# Altium footprint library Gelnar.PcbLib: 295 footprints (part 17 of 19)
Each footprint in its own frame and in the unit in brackets; x right, y up, seen from the top. Pads: shape width x height; smd on the part's side, far side on the other; paste and mask are expansions set on the pad; w line width, h text height; cw(c..) or ccw(c..) is an arc to the next point about the centre after c.
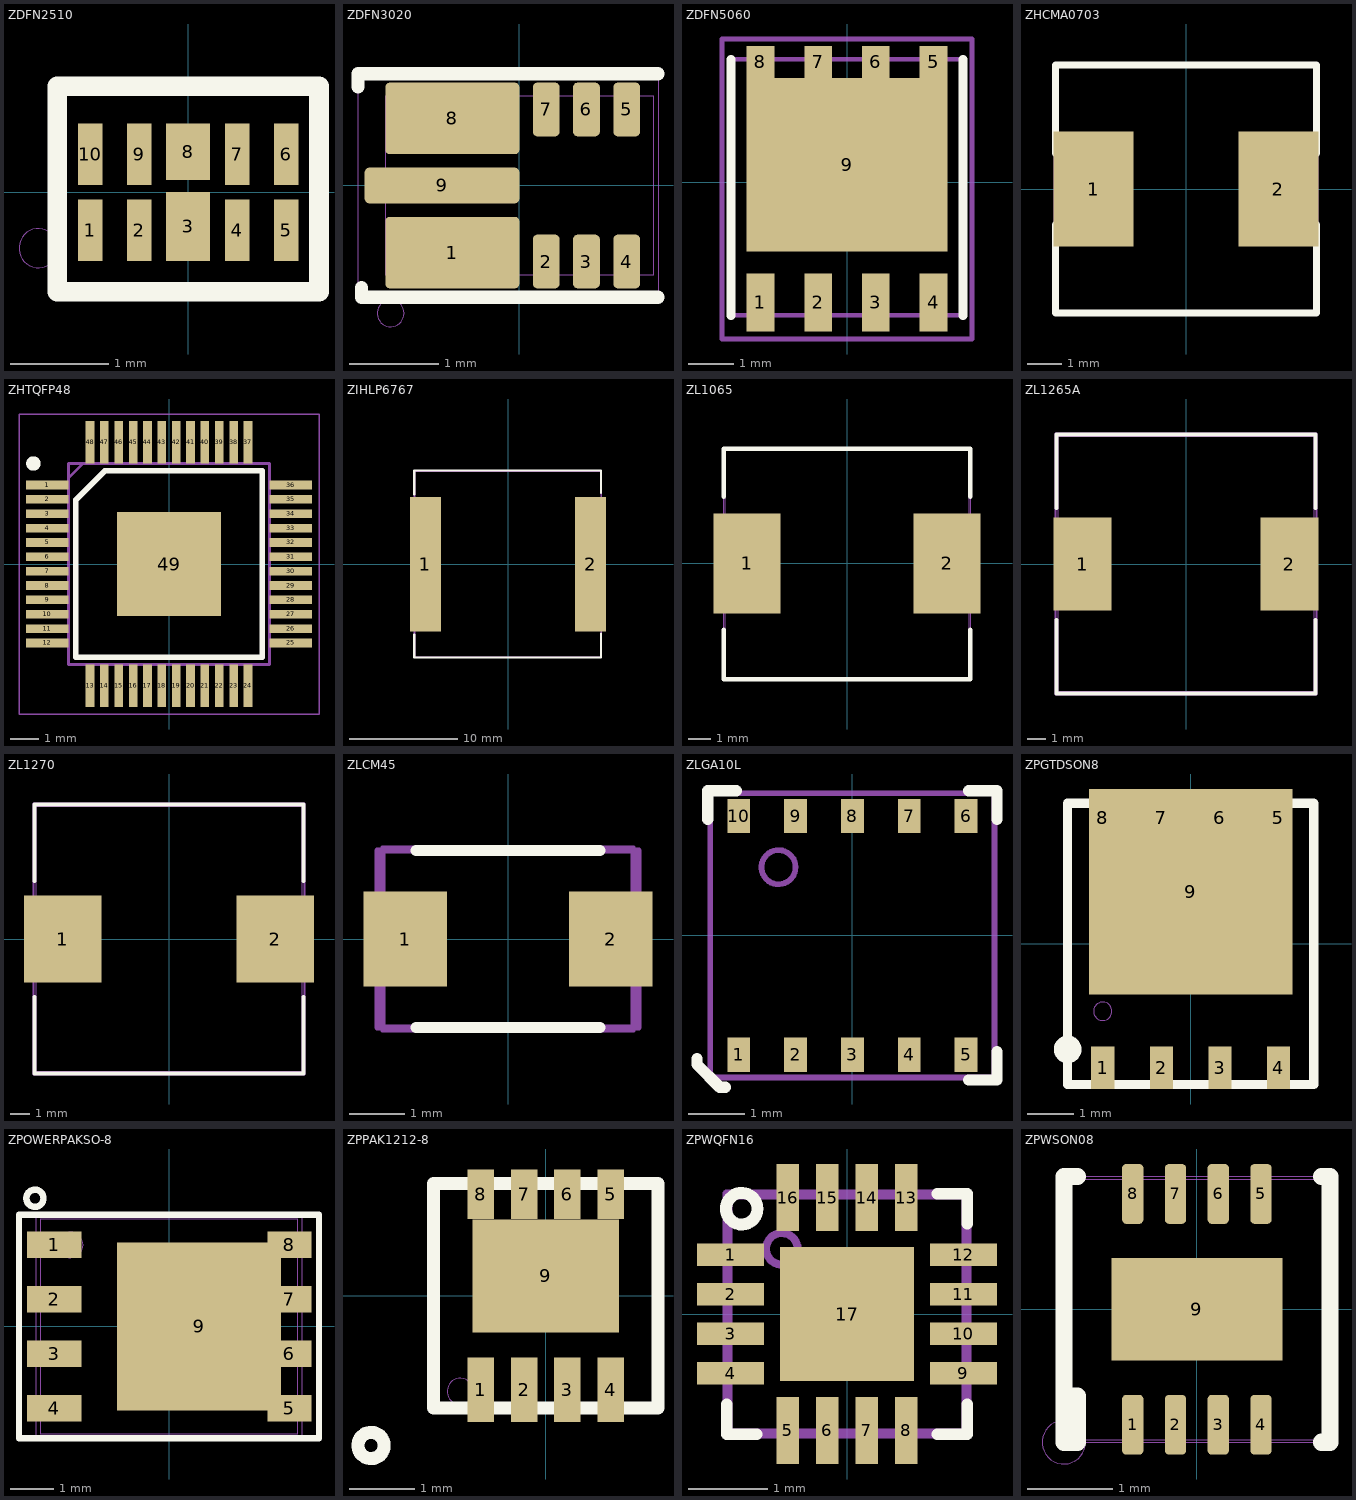
[diagram p16: the footprints below, top view; thin cyan lines are the x and y axes]

## ZDFN2510 [mm]
pads (10):
  rect 0.25x0.625 smd paste-0.038 mask+0.05: 1(-1,-0.387) 2(-0.5,-0.387) 4(0.5,-0.387) 5(1,-0.387) 6(1,0.387) 7(0.5,0.387) 9(-0.5,0.387) 10(-1,0.387)
  rect 0.45x0.7 smd paste-0.05 mask+0.05: 3(0,-0.35)
  rect 0.45x0.575 smd paste-0.042 mask+0.05: 8(0,0.413)
Top Overlay:
  lines w0.2: -1.333,-1.016 1.333,-1.016 1.333,1.079 -1.333,1.079 -1.333,-1.016
Mechanical 15:
  circle w0.01: c-1.524,-0.572 r0.2
  lines w0.01: -1.27,-0.953 -1.27,1.016 1.27,1.016 1.27,-0.953 -1.27,-0.953
Multi-Layer:
  text "Value" at -1.299,1.144 h0.75
Mechanical 20:
  lines w0.01: -1.333,-1.016 -1.333,1.08 1.333,1.08 1.333,-1.016 -1.333,-1.016

## ZDFN3020 [mm]
height 1.75
pads (9):
  rrect12% 1.5x0.8 smd paste-0.29 mask+0.025: 1(-0.75,-0.75) 8(-0.75,0.75)
  rrect33% 0.3x0.6 smd mask+0.025: 2(0.3,-0.85) 3(0.75,-0.85) 4(1.2,-0.85) 5(1.2,0.85) 6(0.75,0.85) 7(0.3,0.85)
  rrect25% 1.73x0.4 smd mask+0.025: 9(-0.865,0)
Top Overlay:
  lines w0.15: -1.805,1.105 -1.805,1.25 1.55,1.25 ; -1.766,-1.144 -1.766,-1.25 1.55,-1.25
Mechanical 15:
  circle w0.01: c-1.439,-1.429 r0.15
  lines w0.01: -1.5,-1 1.5,-1 1.5,1 -1.5,1 -1.5,-1
Mechanical 20:
  lines w0.01: -1.8,-1.2 1.55,-1.2 1.55,1.2 -1.8,1.2 -1.8,-1.2

## ZDFN5060 [mm]
pads (9):
  rect 0.61x1.27 smd mask+0.05: 1(-1.905,-2.645) 2(-0.635,-2.645) 3(0.635,-2.645) 4(1.905,-2.645)
  rect 0.61x0.71 smd mask+0.05: 5(1.905,2.645) 6(0.635,2.645) 7(-0.635,2.645) 8(-1.905,2.645)
  rect 4.42x3.81 smd mask+0.05: 9(0,0.385)
Top Overlay:
  lines w0.2: -2.55,-2.93 -2.55,2.7 ; 2.55,-2.93 2.55,2.7
Mechanical 15:
  lines w0.1: -2.55,-2.93 2.55,-2.93 2.55,2.7 -2.55,2.7 -2.55,-2.93
Multi-Layer:
  text "Value" at -0.85,-0.55 h0.75
Mechanical 20:
  lines w0.1: -2.75,-3.45 2.75,-3.45 2.75,3.15 -2.75,3.15 -2.75,-3.45

## ZHCMA0703 [mm]
pads (2):
  rect 2.3x3.3 smd mask+0.05: 1(-2.651,0) 2(2.651,0)
Top Overlay:
  lines w0.2: -3.746,-1.016 -3.746,-3.557 3.746,-3.557 3.746,-1.016 ; -3.746,1.016 -3.746,3.557 3.746,3.557 3.746,1.016
Mechanical 15:
  lines w0.1: -3.715,-3.524 3.715,-3.524 3.715,3.524 -3.715,3.524 -3.715,-3.524
Multi-Layer:
  text "Value" at -1.235,-0.298 h0.75
Mechanical 20:
  lines w0.1: -3.746,-3.557 3.746,-3.557 3.746,3.557 -3.746,3.557 -3.746,-3.557

## ZHTQFP48 [mm]
pads (49):
  rect 1.475x0.3 smd paste-0.102 mask+0.062: 1(-4.238,2.75) 2(-4.238,2.25) 3(-4.238,1.75) 4(-4.238,1.25) 5(-4.238,0.75) 6(-4.238,0.25) 7(-4.238,-0.25) 8(-4.238,-0.75) 9(-4.238,-1.25) 10(-4.238,-1.75) 11(-4.238,-2.25) 12(-4.238,-2.75) 25(4.238,-2.75) 26(4.238,-2.25) 27(4.238,-1.75) 28(4.238,-1.25) 29(4.238,-0.75) 30(4.238,-0.25) 31(4.238,0.25) 32(4.238,0.75) 33(4.238,1.25) 34(4.238,1.75) 35(4.238,2.25) 36(4.238,2.75)
  rect 0.3x1.475 smd paste-0.102 mask+0.062: 13(-2.75,-4.238) 14(-2.25,-4.238) 15(-1.75,-4.238) 16(-1.25,-4.238) 17(-0.75,-4.238) 18(-0.25,-4.238) 19(0.25,-4.238) 20(0.75,-4.238) 21(1.25,-4.238) 22(1.75,-4.238) 23(2.25,-4.238) 24(2.75,-4.238) 37(2.75,4.238) 38(2.25,4.238) 39(1.75,4.238) 40(1.25,4.238) 41(0.75,4.238) 42(0.25,4.238) 43(-0.25,4.238) 44(-0.75,4.238) 45(-1.25,4.238) 46(-1.75,4.238) 47(-2.25,4.238) 48(-2.75,4.238)
  rrect0% 3.62x3.62 smd mask+0.05: 49(0,0)
Top Overlay:
  circle w0.25: c-4.725,3.5 r0.125
  lines w0.2: -3.25,-3.25 3.25,-3.25 3.25,3.25 -2.234,3.25 -3.25,2.234 -3.25,-3.25
Mechanical 15:
  lines w0.1: -3.5,3 -3,3.5 ; -3.5,-3.5 3.5,-3.5 3.5,3.5 -3.5,3.5 -3.5,-3.5
Mechanical 20:
  lines w0.05: -5.225,-5.225 5.225,-5.225 5.225,5.225 -5.225,5.225 -5.225,-5.225

## ZIHLP6767 [mm]
height 7
pads (2):
  rect 2.875x12.45 smd paste-0.225 mask+0.05: 1(-7.625,0) 2(7.625,0)
Top Overlay:
  lines w0.2: -8.65,-6.5 -8.65,-8.6 8.6,-8.6 8.6,-6.4 ; -8.65,6.45 -8.65,8.65 8.6,8.65 8.6,6.6
Mechanical 15:
  lines w0.01: -8.575,-8.575 8.575,-8.575 8.575,8.575 -8.575,8.575 -8.575,-8.575
Multi-Layer:
  text "Value" at -1.235,-0.298 h0.75
Mechanical 20:
  lines w0.01: -8.65,-8.6 8.6,-8.6 8.6,8.65 -8.65,8.65 -8.65,-8.6

## ZL1065 [mm]
height 7
pads (2):
  rect 3x4.5 smd paste-0.25 mask+0.05: 1(-4.5,0) 2(4.5,0)
Top Overlay:
  lines w0.2: -5.555,-3 -5.555,-5.228 5.555,-5.228 5.555,-3 ; -5.555,3 -5.555,5.163 5.555,5.163 5.555,3
Mechanical 15:
  lines w0.01: -5.489,-5.163 5.489,-5.163 5.489,5.097 -5.489,5.097 -5.489,-5.163
Mechanical 20:
  lines w0.01: -5.555,-5.228 5.555,-5.228 5.555,5.163 -5.555,5.163 -5.555,-5.228

## ZL1265A [mm]
height 7
pads (2):
  rect 3.1x5 smd paste-0.2 mask+0.05: 1(-5.55,0) 2(5.55,0)
Top Overlay:
  lines w0.2: -6.95,-3 -6.95,-6.95 6.95,-6.95 6.95,-3 ; -6.95,3 -6.95,6.95 6.95,6.95 6.95,3
Mechanical 15:
  lines w0.01: -6.853,-6.853 6.853,-6.853 6.853,6.853 -6.853,6.853 -6.853,-6.853
Mechanical 20:
  lines w0.1: -7,-7 7,-7 7,7 -7,7 -7,-7

## ZL1270 [mm]
height 7
pads (2):
  rect 4x4.5 smd paste-0.25 mask+0.05: 1(-5.5,0) 2(5.5,0)
Top Overlay:
  lines w0.2: -6.95,-3 -6.95,-6.95 6.95,-6.95 6.95,-3 ; -6.95,3 -6.95,6.95 6.95,6.95 6.95,3
Mechanical 15:
  lines w0.01: -6.853,-6.853 6.853,-6.853 6.853,6.853 -6.853,6.853 -6.853,-6.853
Multi-Layer:
  text "Value" at -1.235,-0.298 h0.75
Mechanical 20:
  lines w0.1: -7,-7 7,-7 7,7 -7,7 -7,-7

## ZLCM45 [mm]
height 4
pads (2):
  rect 1.5x1.7 smd paste-0.12 mask+0.05: 1(-1.841,0) 2(1.841,0)
Top Overlay:
  lines w0.2: -1.651,-1.587 1.651,-1.587 ; -1.651,1.587 1.651,1.587
Mechanical 15:
  lines w0.1: -2.251,-1.624 -2.251,1.624 2.251,1.624 2.251,-1.624 -2.251,-1.624
Mechanical 20:
  lines w0.1: -2.349,-1.587 -2.349,1.587 2.349,1.587 2.349,-1.587 -2.349,-1.587
3D body "LCM45.STEP": height 3.4, standoff 0, extent -2.212,-1.597 2.288,1.603

## ZLGA10L [mm]
pads (10):
  rect 0.4x0.6 smd paste-0.025 mask+0.05: 1(-2,-2.1) 2(-1,-2.1) 3(0,-2.1) 4(1,-2.1) 5(2,-2.1) 6(2,2.1) 7(1,2.1) 8(0,2.1) 9(-1,2.1) 10(-2,2.1)
Top Overlay:
  lines w0.2: -2.735,-2.171 -2.735,-2.271 -2.335,-2.672 -2.235,-2.672 ; -2.545,2.044 -2.545,2.545 -2.044,2.545 ; 2.044,-2.545 2.545,-2.545 2.545,-2.044 ; 2.044,2.545 2.545,2.545 2.545,2.044
Mechanical 15:
  circle w0.1: c-1.3,1.2 r0.3
  lines w0.1: -2.5,-2.5 2.5,-2.5 2.5,2.5 -2.5,2.5 -2.5,-2.5
Multi-Layer:
  text "Value" at -1.172,-1.06 h0.75

## ZPGTDSON8 [mm]
height 1.75
pads (9):
  rect 0.5x0.925 smd paste-0.05 mask+0.05: 1(-1.905,-2.683) 2(-0.635,-2.683) 3(0.635,-2.683) 4(1.905,-2.683)
  rect 0.6x0.8 smd paste-0.06 mask+0.05: 5(1.905,2.73) 6(0.635,2.73) 7(-0.635,2.73) 8(-1.905,2.73)
  rect 4.41x4.455 smd paste-0.727 mask-0.337: 9(0,1.13)
Top Overlay:
  circle w0.2: c-2.667,-2.286 r0.2
  lines w0.2: -2.667,-3.048 -2.667,3.048 2.667,3.048 2.667,-3.048 -2.667,-3.048
Mechanical 15:
  circle w0.01: c-1.905,-1.46 r0.2
  lines w0.01: -2.603,-2.984 -2.603,2.984 2.603,2.984 2.603,-2.984 -2.603,-2.984
Mechanical 20:
  lines w0.01: -2.667,-3.048 -2.667,3.111 2.667,3.111 2.667,-3.048 -2.667,-3.048

## ZPOWERPAKSO-8 [mm]
height 1.1
pads (9):
  rect 1.27x0.61 smd paste-0.21 mask+0.05: 1(-2.67,1.905) 2(-2.67,0.635) 3(-2.67,-0.635) 4(-2.67,-1.905)
  rect 1.02x0.61 smd paste-0.085 mask+0.05: 5(2.804,-1.905) 6(2.804,-0.635) 7(2.804,0.635) 8(2.804,1.905)
  rect 3.81x3.91 smd paste-1.61 mask+0.05: 9(0.7,0)
Top Overlay:
  circle w0.15: c-3.123,2.984 r0.2
  lines w0.15: -3.492,-2.603 3.492,-2.603 3.492,2.603 -3.492,2.603 -3.492,-2.603
Mechanical 15:
  circle w0.01: c-2.3,1.9 r0.3
  lines w0.01: -3,-2.5 3,-2.5 3,2.5 -3,2.5 -3,-2.5
Multi-Layer:
  text "Value" at -0.683,1.226 h0.6
Mechanical 19:
  lines w0.01: 0,-0.4 0,0 0.5,0
Mechanical 20:
  lines w0.01: -3.1,-2.6 3.1,-2.6 3.1,2.6 -3.1,2.6 -3.1,-2.6

## ZPPAK1212-8 [mm]
height 1.75
pads (9):
  rect 0.405x0.99 smd paste-0.07 mask+0.05: 1(-0.99,-1.435) 2(-0.33,-1.435) 3(0.33,-1.435) 4(0.99,-1.435)
  rect 0.405x0.76 smd paste-0.028 mask+0.05: 5(0.99,1.55) 6(0.33,1.55) 7(-0.33,1.55) 8(-0.99,1.55)
  rect 2.235x1.725 smd paste-0.128 mask+0.05: 9(0,0.305)
Top Overlay:
  circle w0.2: c-2.667,-2.286 r0.2
  lines w0.2: -1.714,-1.714 -1.714,1.714 1.714,1.714 1.714,-1.714 -1.714,-1.714
Mechanical 15:
  circle w0.01: c-1.305,-1.46 r0.2
  lines w0.01: -1.651,-1.651 -1.651,1.651 1.651,1.651 1.651,-1.651 -1.651,-1.651
Mechanical 20:
  lines w0.01: -1.714,-1.714 -1.714,1.714 1.714,1.714 1.714,-1.714 -1.714,-1.714

## ZPWQFN16 [mm]
pads (17):
  rect 0.85x0.28 smd paste-0.085 mask+0.07: 1(-1.475,0.75) 2(-1.475,0.25) 3(-1.475,-0.25) 4(-1.475,-0.75) 9(1.475,-0.75) 10(1.475,-0.25) 11(1.475,0.25) 12(1.475,0.75)
  rect 0.28x0.85 smd paste-0.085 mask+0.07: 5(-0.75,-1.475) 6(-0.25,-1.475) 7(0.25,-1.475) 8(0.75,-1.475) 13(0.75,1.475) 14(0.25,1.475) 15(-0.25,1.475) 16(-0.75,1.475)
  rect 1.7x1.7 smd paste-0.135 mask+0.05: 17(0,0)
Top Overlay:
  circle w0.15: c-1.333,1.333 r0.2
  lines w0.15: -1.524,-1.143 -1.524,-1.524 -1.143,-1.524 ; 1.143,-1.524 1.524,-1.524 1.524,-1.143 ; 1.143,1.524 1.524,1.524 1.524,1.143
Mechanical 15:
  circle w0.1: c-0.826,0.826 r0.2
  lines w0.1: -1.5,-1.5 1.5,-1.5 1.5,1.5 -1.5,1.5 -1.5,-1.5
Multi-Layer:
  text "Value" at -1.235,-1.06 h0.75
Mechanical 20:
  lines w0.1: -1.524,-1.524 1.524,-1.524 1.524,1.524 -1.524,1.524 -1.524,-1.524

## ZPWSON08 [mm]
pads (9):
  rrect40% 0.25x0.7 smd mask+0.05: 1(-0.75,-1.35) 2(-0.25,-1.35) 3(0.25,-1.35) 4(0.75,-1.35) 5(0.75,1.35) 6(0.25,1.35) 7(-0.25,1.35) 8(-0.75,1.35)
  rect 2x1.2 smd paste-0.105 mask+0.05: 9(0,0)
Top Overlay:
  lines w0.2: -1.524,-1.016 -1.397,-1.016 -1.397,-1.556 -1.556,-1.556 -1.556,1.556 -1.397,1.556 ; 1.46,-1.556 1.556,-1.556 1.556,1.556 1.46,1.556
Mechanical 15:
  circle w0.01: c-1.556,-1.556 r0.254
  lines w0.01: -1.524,-1.524 -1.524,1.524 1.524,1.524 1.524,-1.524 -1.524,-1.524
Mechanical 20:
  lines w0.01: -1.556,-1.556 -1.556,1.556 1.556,1.556 1.556,-1.556 -1.556,-1.556
3D body "WSON-8-1EP_3x3mm_P0.5mm_EP1.6x2.0mm.step": height 0.82, standoff 0, extent -1.49,-1.5 1.49,1.5